# Altium schematic symbol library Personal_Schematic_Library_2022.SchLib: 863 symbols (part 2 of 8)
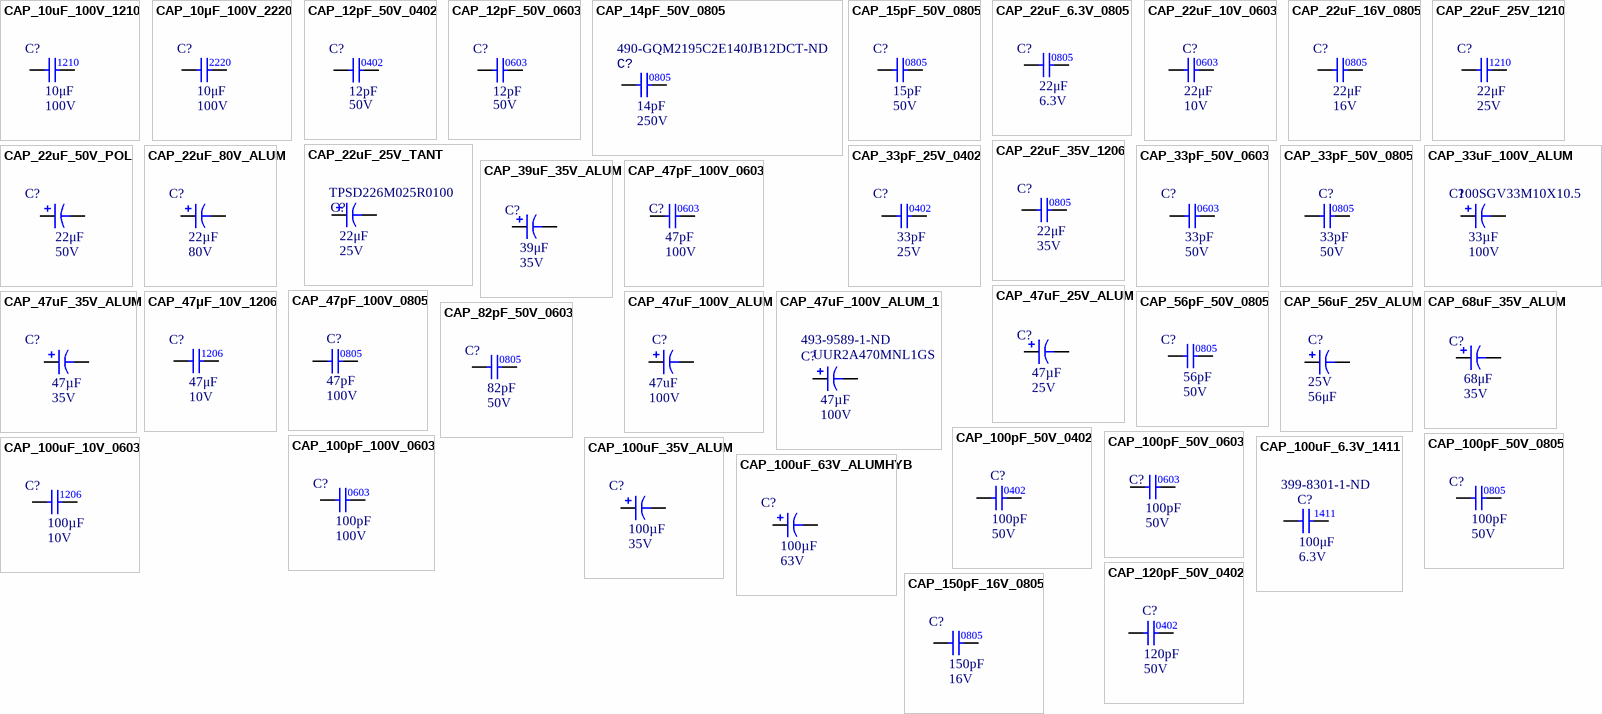
[diagram p30: symbols CAP_10uF_100V_1210 to CAP_150pF_16V_0805]

## CAP_22uF_25V_TANT
designator C?  value 22μF  Voltage Rating: 25V  Supplier Part Number 1: TPSD226M025R0100
CAP TANT 22UF 20% 25V 2917; Manufacturer Part Number 1: F971A106MBAHT3; Manufacturer 1: AVX Corporation; Supplier 1: Arrow Electronics
footprint CAP2917
pins: 1, 2

## CAP_22uF_35V_1206
designator C?  value 22μF  Voltage Rating: 35V
CAP CER 22UF 35V X5R 1206; Manufacturer 1: TDK Corporation; Manufacturer Part Number 1: C3216X5R1V226M160AC; Package/Footprint: 1205; Mounting Type: Surface Mount; Supplier 1: Digi-Key; Supplier Part Number 1: 445-8045-1-ND; Dielectric: X5R
footprint CAP1206 (Chip Capacitor, Body 3.2x1.6mm, Height 0.55mm, IPC Medium Density)
pins: 1, 2
text: 0805

## CAP_22uF_50V_POL
designator C?  value 22μF  Voltage Rating: 50V
CAP ALUM 22UF 20% 50V RADIAL; Manufacturer 1: Würth Elektronik; Manufacturer Part Number 1: 860020672011; Package/Footprint: TH; Supplier Part Number 1: 732-8857-1-ND; Supplier 1: Digi-Key; Mounting Type: TH; LCSC Part #: *
footprint CAPR-2/4h6.8
pins: 1, 2
1 alternate drawing of the same symbol

## CAP_22uF_80V_ALUM
designator C?  value 22µF  Voltage Rating: 80V
CAP ALUM POLY 22UF 20% 80V SMD; Manufacturer 1: KEMET; Manufacturer Part Number 1: A767KN226M1KLAE045; Mounting Type: SMD; Supplier 1: Digi-Key; Supplier Part Number 1: 399-15649-1-ND
footprint RADIAL_KEMET_KN
pins: 1, 2

## CAP_33pF_25V_0402
designator C?  value 33pF  Voltage Rating: 25V
CAP CER 33PF 25V C0G/NP0 0402; Manufacturer 1: AVX Corporation; Manufacturer Part Number 1: 04023A330JAT2A; Dielectric: C0G; Supplier 1: Digi-Key; Mounting Type: SMD; Supplier Part Number 1: 478-12613-1-ND; Package: 0402
footprint CAP0402 (Chip Capacitor, Body 1x0.5mm, Height 0.35mm, IPC Medium Density)
pins: 1, 2

## CAP_33pF_50V_0603
designator C?  value 33pF  Voltage Rating: 50V
CAP CER 33PF 50V C0G/NP0; Manufacturer 1: Yageo; Manufacturer Part Number 1: CC0603JRNPO9BN330; Package/Footprint: 0603; Dielectric: C0G; Supplier 1: Digi-Key; Mounting Type: SMD; Supplier Part Number 1: 311-1064-1-ND
footprint CAP0603
pins: 1, 2

## CAP_33pF_50V_0805
designator C?  value 33pF  Voltage Rating: 50V
CAP CER 33PF 50V C0G/NP0 0805; Manufacturer 1: Samsung Electro-Mechanics; Manufacturer Part Number 1: CL21C330JBANNNC; Dielectric: C0G/NP0; Mounting Type: SMD; Supplier 1: Digi-Key; Supplier Part Number 1: 1276-1105-1-ND; Package: 0805
footprint CAP0805 (Chip Capacitor, Body 2.0x1.2mm, Height 0.45mm, IPC Medium Density)
pins: 1, 2

## CAP_33uF_100V_ALUM
designator C?  value 33µF  Manufacturer Part Number 1: 100SGV33M10X10.5  Voltage Rating: 100V
CAP. ALUM 33UF 100V 20% SMD; Manufacturer 1: RubyCon; Mounting Type: SMD; Package/Footprint: SMD; Supplier 1: Digi-Key; Supplier Part Number 1: 1189-2387-1-ND
footprint CAP_J-V_8X10P5_RUB-M
pins: 1, 2

## CAP_39uF_35V_ALUM
designator C?  value 39μF  Voltage Rating: 35V
CAP ALUM POLY 39UF 20% 35V SMD; Manufacturer 1: Panasonic; Manufacturer Part Number 1: 35SVPF39M; Supplier 1: Digi-Key; Supplier Part Number 1: P16561CT-ND
footprint RADIAL_PANASONIC_E7 (Size E7 radial surface mount capacitor)
pins: 1, 2

## CAP_47pF_100V_0603
designator C?  value 47pF  Voltage Rating: 100V
CAP CER 47PF 100V C0G/NP0 0603; Manufacturer Part Number 1: C0603C470J1GACTU; Manufacturer 1: KEMET; Dielectric: C0G, NP0; Supplier Part Number 1: 399-7917-1-ND; Supplier 1: Digi-Key
footprint CAP0603
pins: 1, 2
text: 0603

## CAP_47pF_100V_0805
designator C?  value 47pF  Voltage Rating: 100V
CAP CER 47PF 100V NPO 0805; Manufacturer 1: Yageo; Manufacturer Part Number 1: AC0805JRNPO0BN470; Package/Footprint: 0805; Supplier 1: Digi-Key; Mounting Type: SMD; Supplier Part Number 1: 311-3131-1-ND
footprint CAP2012
pins: 1, 2

## CAP_47uF_25V_ALUM
designator C?  Voltage: 25V  Capacitance: 47µF
CAP ALUM POLY 47UF 20% 25V SMD; Manufacturer 1: Panasonic Electronic Components; Manufacturer Part Number 1: 25SVPF47M; Supplier 1: Digi-Key; Mounting Type: SMD; Package/Footprint: SMD; Supplier Part Number 1: P16513CT-ND; Verified: No; LCSC Part #: *
footprint 25SVPF47M (Aluminum Electrolytic Capacitor, Body 6.60x6.60x6.10mm, IPC Low Density)
pins: 1, 2

## CAP_47uF_35V_ALUM
designator C?  value 47µF  Voltage Rating: 35V
CAP ALUM POLY HYB 47UF 35V SMD; Manufacturer 1: Cornell Dubilier Electronics (CDE); Manufacturer Part Number 1: HZA476M035D16T-F; Supplier 1: Digi-Key; Supplier Part Number 1: HZA476M035D16T-FCT-ND; Mounting Type: SMD; Package/Footprint: SMD
footprint RADIAL_CORNELL_D
pins: 1, 2

## CAP_47uF_100V_ALUM
designator C?  Voltage Rating: 100V  Capacitance: 47uF
Aluminum Electrolytic Capacitor, Polarized, Aluminum (wet), 100V, 20% +Tol, 20% -Tol, 47uF, Surface Mount, 5454; Manufacturer: Nichicon; Manufacturer Part Number: UCD2A470MNQ1MS; Dielectric Material: Aluminium; Leakage Current: 47uA; Ripple Current: 250mA; Tan Delta: 0.07; ComponentLink1URL: https://datasheet.ciiva.com:443/pdfs/VipMasterIC/IC/NICH/NICH-S-A0003527725/NICH-S-A0003527725-1.pdf?src-supplier=IHS+Markit; ComponentLink1Description: https://datasheet.ciiva.com:443/pdfs/VipMasterIC/IC/NICH/NICH-S-A0003527725/NICH-S-A0003527725-1.pdf?src-supplier=IHS+Markit; ComponentLink2URL: https://datasheet.ciiva.com/11776/0900766b80ebdadd-11776792.pdf?src-supplier=RSComponents; ComponentLink2Description: https://datasheet.ciiva.com/11776/0900766b80ebdadd-11776792.pdf?src-supplier=RSComponents; ComponentLink3URL: https://datasheet.ciiva.com/30526/getdatasheetpartid-513218-30526979.pdf?src-supplier=Verical; ComponentLink3Description: https://datasheet.ciiva.com/30526/getdatasheetpartid-513218-30526979.pdf?src-supplier=Verical; ComponentLink4URL: https://datasheet.ciiva.com/16389/e-cd-16389182.pdf?src-supplier=Future+Electronics; ComponentLink4Description: https://datasheet.ciiva.com/16389/e-cd-16389182.pdf?src-supplier=Future+Electronics; ComponentLink5URL: https://datasheet.ciiva.com/17523/e-cd-17523974.pdf?src-supplier=Avnet+Europe; ComponentLink5Description: https://datasheet.ciiva.com/17523/e-cd-17523974.pdf?src-supplier=Avnet+Europe; ComponentLink6URL: https://datasheet.ciiva.com/6326/e-cd-6326630.pdf?src-supplier=Digi-Key; ComponentLink6Description: https://datasheet.ciiva.com/6326/e-cd-6326630.pdf?src-supplier=Digi-Key; ComponentLink7URL: https://datasheet.ciiva.com/6326/e-cd-6326632.pdf?src-supplier=Digi-Key; ComponentLink7Description: https://datasheet.ciiva.com/6326/e-cd-6326632.pdf?src-supplier=Digi-Key; ComponentLink8URL: https://datasheet.ciiva.com/6326/e-cd-6326634.pdf?src-supplier=Digi-Key; ComponentLink8Description: https://datasheet.ciiva.com/6326/e-cd-6326634.pdf?src-supplier=Digi-Key; Supplier 1: Digi-Key; RoHS: Yes; Category: Aluminum Electrolytic Capacitors; Stock 1: 515; Pricing 1: 1=2.15000, 10=1.69800, 50=1.47140, 100=1.27330 (USD); Mount: Surface Mount; Number of Pins: 2; Package Shape: Cylindrical; Size Code: 7575; Terminal Finish: Copper; Min Operating Temperature: -55°C; Max Operating Temperature: 105°C; JESD-609 Code: e3; Polarity: Polarized; Capacitor Type: Aluminium; Negative Tolerance: 20%; Package Style: SMTMeter; Packaging: Tape and Reel; Positive Tolerance: 20%; Rated DC Voltage (URdc): 100V; Termination: Flat; Length: 14.6mm; Width: 13.6mm; Height: 13.5mm; REACH SVHC: Yes; RoHS Compliant: Yes; Supplier Part Number 1: 493-6201-1-ND
footprint RADIAL_CORNELL_D (Size D radial surface mount capacitor)
pins: 1, 2

## CAP_47uF_100V_ALUM_1
designator C?  value 47µF  Manufacturer Part Number 1: UUR2A470MNL1GS  Voltage Rating: 100V  Supplier Part Number 1: 493-9589-1-ND
CAP ALUM 47UF 20% 100V SMD; Manufacturer 1: Nichicon; Mounting Type: SMD; Package/Footprint: SMD; Supplier 1: Digi-Key
footprint CAP_UCD_10X10_NCH-M
pins: 1, 2

## CAP_47μF_10V_1206
designator C?  value 47μF  Voltage Rating: 10V
CAP CER 47UF 10V X5R 1206; Manufacturer 1: Murata Electronics; Manufacturer Part Number 1: GRM31CR61A476ME15L; Mounting Type: SMD; Package: 1206; Supplier 1: Digi-Key; Supplier Part Number 1: 490-5528-1-ND
footprint CAP1206 (Chip Capacitor, Body 3.2x1.6mm, Height 0.55mm, IPC Medium Density)
pins: 1, 2

## CAP_56pF_50V_0805
designator C?  value 56pF  Voltage Rating: 50V
CAP CER 56PF 50V C0G/NP0; Manufacturer 1: Yageo; Manufacturer Part Number 1: CC0805FRNPO9BN560; Dielectric: C0G, NP0; Supplier 1: Digi-Key; Supplier Part Number 1: 311-4179-1-ND
footprint CAP2012
pins: 1, 2
text: 0805

## CAP_56uF_25V_ALUM
designator C?  value 56μF  Voltage Rating: 25V
CAP ALUM POLY HYB 56UF 25V SMD; Manufacturer Part Number 1: EEH-ZC1E560P; Manufacturer 1: Panasonic Electronic Components; Supplier 1: Digi-Key; Supplier Part Number 1: P15460CT-ND
footprint RADIAL_PANASONIC_D (Size D radial surface mount capacitor)
pins: 1, 2

## CAP_68uF_35V_ALUM
designator C?  value 68μF  Voltage Rating: 35V
CAP ALUM 68UF 20% 35V SMD; Manufacturer 1: Nichicon; Manufacturer Part Number 1: UUD1V680MCL1GS; Supplier 1: Digi-Key; Mounting Type: SMD; Supplier Part Number 1: 493-2289-1-ND; Package/Footprint: SMD
footprint RADIAL_NICHION_1V (Size G radial surface mount capacitor)
pins: 1, 2

## CAP_82pF_50V_0603
designator C?  value 82pF  Voltage Rating: 50V
CAP CER 82PF 50V C0G/NPO 0603; Manufacturer 1: Yageo; Manufacturer Part Number 1: CC0603JRNPO9BN820; Dielectric: C0G, NP0; Supplier 1: Digi-Key; Supplier Part Number 1: 311-1068-1-ND
footprint CAP0603
pins: 1, 2
text: 0805

## CAP_100pF_50V_0402
designator C?  Capacitance: 100pF  Voltage: 50V
CAP CER 100PF 50V X7R 0402; Manufacturer 1: AVX Corporation; Manufacturer Part Number 1: 04025C101KAT2A; Supplier 1: Digi-Key; Supplier Part Number 1: 478-1089-1-ND; Package: 0402
footprint CAP0402 (Chip Capacitor, Body 1x0.5mm, Height 0.35mm, IPC Medium Density)
pins: 1, 2

## CAP_100pF_50V_0603
designator C?  value 100pF  Voltage Rating: 50V
CAP CER 100PF 50V C0G/NP0 0603; Manufacturer Part Number 1: VJ0603A101JXAAC; Manufacturer 1: Vishay Vitramon; Dielectric: C0G, NP0; Supplier Part Number 1: 720-1370-1-ND; Supplier 1: Digi-Key
footprint CAP0603
pins: 1, 2
text: 0603

## CAP_100pF_50V_0805
designator C?  value 100pF  Voltage Rating: 50V
CAP CER 100PF 50V C0G/NP0 0805; Manufacturer 1: KEMET; Manufacturer Part Number 1: C0805C101J5GACTU; Package/Footprint: 0805; Dielectric: C0G, NP0; Mounting Type: SMD; Supplier 1: Digi-Key; Supplier Part Number 1: 399-1122-1-ND
footprint CAP2012
pins: 1, 2

## CAP_100pF_100V_0603
designator C?  value 100pF  Voltage Rating: 100V
CAP CER 100PF 100V X7R 0603; Manufacturer 1: YAGEO; Manufacturer Part Number 1: CC0603KRX7R0BB101; Package/Footprint: 0603; Mounting Type: SMD; Dielectric: X7R; Supplier 1: Digi-Key; Supplier Part Number 1: 311-4048-1-ND
footprint CAP2012
pins: 1, 2

## CAP_100uF_6.3V_1411
designator C?  Capacitance: 100μF  Voltage Rating: 6.3V  Supplier Part Number 1: 399-8301-1-ND
CAP TANT 100UF 6.3V 1411; Manufacturer: KEMET; Manufacturer Part Number: T495B107K006ATE400; Package/Footprint: 1411; Mounting Type: Surface Mount; Supplier 1: Digi-Key
pins: 1, 2

## CAP_100uF_10V_0603
designator C?  value 100µF  Voltage Rating: 10V
CAP CER 100UF 10V X5R 1206; Manufacturer 1: Murata Electronics; Manufacturer Part Number 1: GRM31CR61A107MEA8L; Package/Footprint: 1206; Mounting Type: SMD; Dielectric: X5R; Supplier 1: Digi-Key; Supplier Part Number 1: 490-GRM31CR61A107MEA8LCT-ND
footprint CAP1206 (Chip Capacitor, Body 3.2x1.6mm, Height 0.55mm, IPC Medium Density)
pins: 1, 2

## CAP_100uF_35V_ALUM
designator C?  value 100µF  Voltage Rating: 35V
CAP ALUM 100UF 20% 35V SMD; Manufacturer 1: Rubycon; Manufacturer Part Number 1: 35TKV100M8X10.5; Mounting Type: SMD; Package/Footprint: SMD; Supplier 1: Digi-Key; Supplier Part Number 1: 1189-2074-1-ND
footprint RADIAL_CORNELL_D (Size D radial surface mount capacitor)
pins: 1, 2

## CAP_100uF_63V_ALUMHYB
designator C?  value 100µF  Voltage Rating: 63V
CAP ALUMHYB 100UF 20% 63V SMD; Manufacturer 1: KEMET; Manufacturer Part Number 1: A781MS107M1JLAS030; Package/Footprint: Radial; Mounting Type: SMD; Supplier 1: Digikey; Supplier Part Number 1: 399-A781MS107M1JLAS030CT-ND
footprint RADIAL_KEMET_A781
pins: 1, 2

## CAP_120pF_50V_0402
designator C?  Capacitance: 120pF  Voltage: 50V
CAP CER 120PF 50V X7R 0402; Manufacturer 1: AVX Corporation; Manufacturer Part Number 1: 04025C121KAT2A; Supplier 1: Digi-Key; Supplier Part Number 1: 478-1090-1-ND; Package: 0402
footprint CAP0402 (Chip Capacitor, Body 1x0.5mm, Height 0.35mm, IPC Medium Density)
pins: 1, 2

## CAP_150pF_16V_0805
designator C?  value 150pF  Voltage Rating: 16V
CAP CER 150PF 16V X7R 0805; Manufacturer 1: Würth Elektronik; Manufacturer Part Number 1: 885012207028; Package/Footprint: 0805; Supplier 1: Digi-Key; Supplier Part Number 1: 732-8028-1-ND
footprint CAP0805 (Chip Capacitor, Body 2.0x1.2mm, Height 0.45mm, IPC Medium Density)
pins: 1, 2

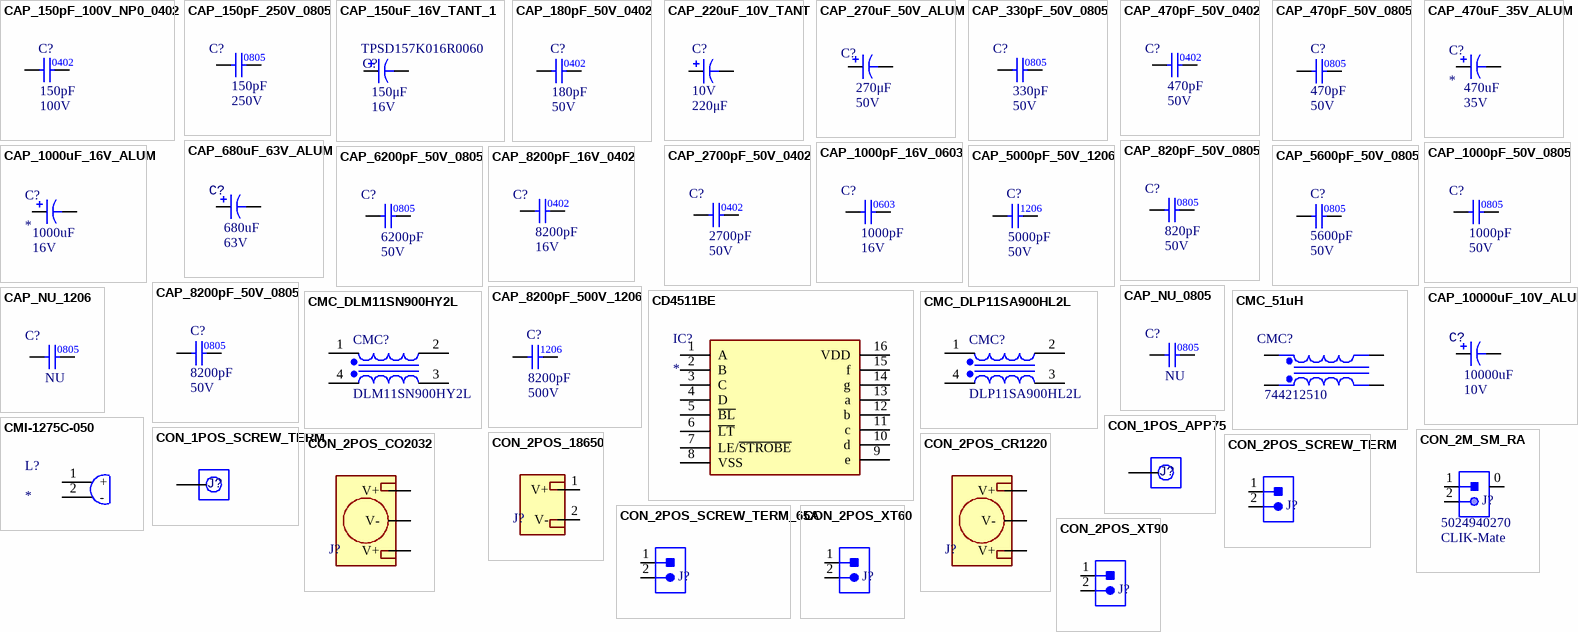
[diagram p5: symbols CAP_150pF_100V_NP0_0402 to CON_2POS_XT90]

## CAP_150pF_100V_NP0_0402
designator C?  Capacitance: 150pF  Rated DC Voltage (URdc): 100V
CAP CER 150PF 100V C0G/NP0 0402; Manufacturer: Yageo; Manufacturer Part Number: CGA2B2C0G2A151J050BE; Dielectric: X7R; Supplier 1: Digi-Key; Supplier Part Number 1: 445-175654-1-ND; RoHS: Yes; Category: Ceramic Capacitors; Mount: Surface Mount; Package: 0402
footprint CAP0402 (Chip Capacitor, Body 1x0.5mm, Height 0.35mm, IPC Medium Density)
pins: 1, 2

## CAP_150pF_250V_0805
designator C?  value 150pF  Voltage Rating: 250V
CAP CER 150PF 250V C0G/NP0 0805; Manufacturer 1: Murata Electronics; Manufacturer Part Number 1: GRM21A5C2E151JW01D; Dielectric: C0G, NP0; Supplier 1: Digi-Key; Supplier Part Number 1: 490-12755-1-ND
footprint CAP2012
pins: 1, 2
text: 0805

## CAP_150uF_16V_TANT_1
designator C?  value 150μF  Voltage Rating: 16V  Supplier Part Number 1: TPSD157K016R0060
CAP TANT 150UF 10% 16V 2917; Manufacturer 1: Kyocera AVX; Manufacturer Part Number 1: TPSD157K016R0060; Supplier 1: Arrow Electronics
footprint CAP2917
pins: 1, 2

## CAP_180pF_50V_0402
designator C?  Capacitance: 180pF  Voltage: 50V
CAP CER 180PF 50V X7R 0402; Manufacturer 1: AVX Corporation; Manufacturer Part Number 1: 04025C181KAT2A; Supplier 1: Digi-Key; Supplier Part Number 1: 478-1092-1-ND; Package: 0402
footprint CAP0402 (Chip Capacitor, Body 1x0.5mm, Height 0.35mm, IPC Medium Density)
pins: 1, 2

## CAP_220uF_10V_TANT
designator C?  value 220μF  Voltage Rating: 10V
CAP TANT POLY 220UF 10V 2917; Manufacturer Part Number 1: T55D227M010C0008; Manufacturer 1: Vishay Sprague; Supplier 1: Digi-Key; Supplier Part Number 1: 718-2303-1-ND
footprint CAP2917
pins: 1, 2

## CAP_270uF_50V_ALUM
designator C?  value 270μF  Voltage Rating: 50V
CAP ALUM 270uF 50VDC 20% SMD; Manufacturer 1: Panasonic Electronic Components; Manufacturer Part Number 1: EEE-FN1H271UP; Supplier 1: Digi-Key; Mounting Type: SMD; Supplier Part Number 1: 10-EEE-FN1H271UPCT-ND
footprint RADIAL_PANASONIC_G (Size G radial surface mount capacitor)
pins: 1, 2

## CAP_330pF_50V_0805
designator C?  value 330pF  Voltage Rating: 50V
CAP CER 330PF 50V C0G/NPO 0805; Manufacturer 1: Yageo; Manufacturer Part Number 1: CC0805JRNPO9BN331; Package/Footprint: 0805; Supplier 1: Digi-Key; Supplier Part Number 1: 311-1117-1-ND
footprint CAP0805 (Chip Capacitor, Body 2.0x1.2mm, Height 0.45mm, IPC Medium Density)
pins: 1, 2

## CAP_470pF_50V_0402
designator C?  Voltage Rating: 50V  Capacitance: 470pF
CAP CER 470PF 50V X7R 0402; Manufacturer 1: Murata; Manufacturer Part Number 1: GRM155R71H471KA01D; Package/Footprint: 0402; Supplier 1: Digi-Key; Dielectric: X7R; Supplier Part Number 1: 490-1300-1-ND
footprint CAP 0402_1005 (Chip Capacitor, 2-Leads, Body 1.02x0.51mm, IPC Medium Density)
pins: 1, 2

## CAP_470pF_50V_0805
designator C?  value 470pF  Voltage Rating: 50V
CAP CER 470PF 50V X7R 0805; Manufacturer 1: Kyocera AVX; Manufacturer Part Number 1: 08055C471JAT2A; Package/Footprint: 0805; Supplier 1: Digi-Key; Mounting Type: SMD; Supplier Part Number 1: 478-7958-1-ND; Dielectric: X7R
footprint CAP2012
pins: 1, 2

## CAP_470uF_35V_ALUM
designator C?  Voltage: 35V  Capacitance: 470uF
CAP ALUM 470uF 20% 35V SMD; Manufacturer 1: ROQANG; Manufacturer Part Number 1: RVT1V471M1010; Datasheet Link: https://datasheet.lcsc.com/szlcsc/2004031004_ROQANG-RVT1V471M1010_C72519.pdf; Height: 11mm; LCSC Number: C72519
footprint CAPAE1030X1100N
pins: 1, 2

## CAP_680uF_63V_ALUM
designator C?  value 680uF  Voltage Rating: 63V
CAP ALUM 680UF 20% 63V RADIAL; Manufacturer 1: United Chemi-Con; Manufacturer Part Number 1: ELXZ630ELL681MM20S; Supplier 1: Digi-Key; Voltage: 63V; Supplier Part Number 1: 565-2050-ND; Mounting Type: SMD
footprint ELXZ630ELL681MM20S (CAP ALUM 680UF 20% 63V RADIAL)
pins: 1, 2

## CAP_820pF_50V_0805
designator C?  Capacitance: 820pF  Voltage Rating: 50V
CAP CER 820PF 50V C0G/NP0 0805; Manufacturer 1: KEMET; Manufacturer Part Number 1: C0805X821J5GAC7800; Package/Footprint: 0805; Supplier 1: Digi-Key; Supplier Part Number 1: 399-19481-1-ND
footprint CAP0805 (Chip Capacitor, Body 2.0x1.2mm, Height 0.45mm, IPC Medium Density)
pins: 1, 2

## CAP_1000pF_16V_0603
designator C?  value 1000pF  Voltage Rating: 16V
CAP CER 1000PF 16V X7R 0603; Manufacturer 1: KEMET; Manufacturer Part Number 1: C0603C102K4RAC7867; Package/Footprint: 0603; Supplier 1: Digi-Key; Mounting Type: SMD; Supplier Part Number 1: 399-C0603C102K4RAC7867CT-ND; Dielectric: X7R
footprint CAP0603
pins: 1, 2

## CAP_1000pF_50V_0805
designator C?  value 1000pF  Voltage Rating: 50V
CAP CER 1000pF 50V X7R 0805; Manufacturer 1: Samsung; Manufacturer Part Number 1: CL21B102KBANNNC; Package/Footprint: 0805; Supplier 1: Digi-Key; Mounting Type: SMD; Supplier Part Number 1: 1276-1020-1-ND; Dielectric: X7R
footprint CAP2012
pins: 1, 2

## CAP_1000uF_16V_ALUM
designator C?  Voltage: 16V  Capacitance: 1000uF
CAP ALUM 1000uF 20% 16V SMD; Manufacturer: Lelon; Manufacturer Part Number 1: VE-102M1CTR-1010; Datasheet Link: https://datasheet.lcsc.com/szlcsc/1811051743_Lelon-VE-102M1CTR-1010_C249474.pdf; Height: 10.5mm; Tolerance: 20%; LCSC Number: C249474
footprint CAPAE1030X1050N
pins: 1, 2

## CAP_2700pF_50V_0402
designator C?  Capacitance: 2700pF  Voltage Rating: 50V
CAP CER 2700PF 50V C0G 0805; Manufacturer 1: TDK Corporation; Manufacturer Part Number 1: C2012C0G1H272J060AA; Package: 0805; Supplier 1: Digi-Key; Supplier Part Number 1: 445-7508-1-ND
footprint CAP0402 (Chip Capacitor, Body 1x0.5mm, Height 0.35mm, IPC Medium Density)
pins: 1, 2
text: 0402

## CAP_5000pF_50V_1206
designator C?  Voltage Rating: 50V  Capacitance: 5000pF
CAP CER 5000pF 50V X7R 1206; Manufacturer 1: Kyocera AVX; Manufacturer Part Number 1: 12065C502JAT2A; Supplier 1: Digi-Key; Supplier Part Number 1: 478-11953-1-ND; Dielectric: X7R
footprint CAP1206 (Chip Capacitor, Body 3.2x1.6mm, Height 0.55mm, IPC Medium Density)
pins: 1, 2
text: 1206

## CAP_5600pF_50V_0805
designator C?  Capacitance: 5600pF  Voltage Rating: 50V
CAP CER 5600PF 50V C0G 0805; Manufacturer 1: TDK Corporation; Manufacturer Part Number 1: CGA4C2C0G1H562J060AA; Package/Footprint: 0805; Mounting Type: SMD; Supplier 1: Digi-Key; Supplier Part Number 1: 445-6944-1-ND; Dielectric: C0G
pins: 1, 2

## CAP_6200pF_50V_0805
designator C?  Capacitance: 6200pF  Voltage Rating: 50V
CAP CER 6200PF 50V C0G/NP0 0805; Manufacturer 1: Murata Electronics; Manufacturer Part Number 1: GRM2195C1H622JA01D; Package/Footprint: 0805; Supplier 1: Digi-Key; Supplier Part Number 1: 490-1637-1-ND
footprint CAP0805 (Chip Capacitor, Body 2.0x1.2mm, Height 0.45mm, IPC Medium Density)
pins: 1, 2

## CAP_8200pF_16V_0402
designator C?  Voltage Rating: 16V  Capacitance: 8200pF
CAP CER 8200PF 16V X7R 0402; Manufacturer 1: Murata; Manufacturer Part Number 1: GRM155R71C822KA01D; Dielectric: X7R; Supplier 1: Digi-Key; Supplier Part Number 1: 490-6338-1-ND; Package: 0402
footprint CAP0402 (Chip Capacitor, Body 1x0.5mm, Height 0.35mm, IPC Medium Density)
pins: 1, 2

## CAP_8200pF_50V_0805
designator C?  Capacitance: 8200pF  Voltage Rating: 50V
CAP CER 8200PF 50V X7R 0805; Manufacturer: YAGEO; Manufacturer Part Number: CC0805KRX7R9BB822; Mounting Type: SMD; Package: 0805; Supplier 1: Digi-Key; Supplier Part Number 1: 311-4331-1-ND; Dielectric: X7R
footprint CAP0805 (Chip Capacitor, Body 2.0x1.2mm, Height 0.45mm, IPC Medium Density)
pins: 1, 2

## CAP_8200pF_500V_1206
designator C?  value 8200pF  Voltage Rating: 500V
CAP CER 8200PF 500V C0G 1206; Manufacturer 1: KEMET; Manufacturer Part Number 1: C1206C822JCGACAUTO; Dielectric: C0G, NP0; Supplier 1: Digi-Key; Supplier Part Number 1: 399-14847-1-ND
footprint CAP1206 (Chip Capacitor, Body 3.2x1.6mm, Height 0.55mm, IPC Medium Density)
pins: 1, 2
text: 1206

## CAP_10000uF_10V_ALUM
designator C?  value 10000uF  Voltage Rating: 10V
CAP ALUM 10000UF 20% 10V RADIAL; Manufacturer 1: Nichicon; Manufacturer Part Number 1: URS1A103MHD1TN; Supplier 1: Digi-Key; Mounting Type: TH; Package: TH; Supplier Part Number 1: 493-12364-1-ND; Verified: No
footprint CAP_UBY_18X25_NC
pins: 1, 2

## CAP_NU_0805
designator C?  value NU
PLACEHOLDER CAPACITOR; Mounting Type: SMD; Package: 0805
footprint CAP0805 (Chip Capacitor, Body 2.0x1.2mm, Height 0.45mm, IPC Medium Density)
pins: 1, 2

## CAP_NU_1206
designator C?  value NU
PLACEHOLDER CAPACITOR; Mounting Type: Surface Mount; Package: 1206
footprint CAP1206 (Chip Capacitor, Body 3.2x1.6mm, Height 0.55mm, IPC Medium Density)
pins: 1, 2
text: 0805

## CD4511BE
designator IC?
Integrated Circuit; Manufacturer_Name: Texas Instruments; Manufacturer Part Number 1: CD4511BE; Datasheet Link: http://www.ti.com/lit/gpn/cd4511b; Height: 5.08mm; Mouser Part Number: 595-CD4511BE; Mouser Price/Stock: https://www.mouser.co.uk/ProductDetail/Texas-Instruments/CD4511BE?qs=pt%2FIv5r0EPdhGGYgwfpYEw%3D%3D; Arrow Part Number: CD4511BE; Arrow Price/Stock: https://www.arrow.com/en/products/cd4511be/texas-instruments?region=nac
footprint DIP794W53P254L1930H508Q16N
pins: 1 A, 2 B, 3 C, 4 D, 5 ~{BL}, 6 ~{LT}, 7 LE/~{STROBE}, 8 VSS, 9 e, 10 d, 11 c, 12 b, 13 a, 14 g, 15 f, 16 VDD

## CMC_51uH
designator CMC?  Manufacturer Part Number 1: 744212510  (hidden comment: CMC_51uH)
CMC 51uH 300MA 2LN SMD; Manufacturer 1: Wurth Electronics; DC Resistance (DCR): 160mR; Test Frequency: 100kHz; Inductance Tolerance: 50%; Voltage Rating (DC): 80V; Number of Lines: 2; Impedance: 300R; Supplier 1: Digi-Key; Package/Footprint: SMD; Number of Pins: 4; Current: 300mA; Max DC Current: 300mA; Mounting Type: SMD; Current Rating: 300mA; Inductance: 51uH; ComponentLink7URL: https://datasheet.ciiva.com/6216/744212510-6216348.pdf?src-supplier=Digi-Key; ComponentLink7Description: https://datasheet.ciiva.com/6216/744212510-6216348.pdf?src-supplier=Digi-Key; ComponentLink8URL: https://datasheet.ciiva.com/7764/1735560-7764951.pdf?src-supplier=Element14; ComponentLink8Description: https://datasheet.ciiva.com/7764/1735560-7764951.pdf?src-supplier=Element14; Supplier Part Number 1: 732-3941-1-ND
footprint 744212510 (CMC HORIZONTAL 4 J-LEAD)
pins: 1 Pri+, 3 Sec+, 4 Sec-, 5 Pri-

## CMC_DLM11SN900HY2L
designator CMC?  Manfuacturer Part Number 1: DLM11SN900HY2L
CMC 100MA 2LN 90 OHM SMD; Manufacturer 1: Murata Electronics; DC Resistance (DCR) (Max): 1.38Ohm; Voltage Rating - DC: 5V; Supplier 1: Digi-Key; Supplier Part Number 1: 490-11941-1-ND; Current Rating (Max): 100mA; Package: 0504
footprint FIL_DLM11SN900HY2L
pins: 1, 2, 3, 4

## CMC_DLP11SA900HL2L
designator CMC?  Manfuacturer Part Number 1: DLP11SA900HL2L
CMC 150MA 2LN 90 OHM SMD; Manufacturer 1: Murata Electronics; DC Resistance (DCR) (Max): 1.75Ohm; Voltage Rating - DC: 5V; Supplier 1: Digi-Key; Supplier Part Number 1: 490-6035-1-ND; Current Rating (Max): 150mA; Package: 0504
footprint FIL_DLP11SA900HL2L
pins: 1, 2, 3, 4

## CMI-1275C-050
designator L?
Inductor; Manufacturer_Name: CUI Inc.; Manufacturer Part Number 1: CMI-1275C-050; Datasheet Link: https://componentsearchengine.com/Datasheets/1/CMI-1275C-050.pdf; Height: 8mm; Mouser Part Number: 490-CMI-1275C-050; Mouser Price/Stock: https://www.mouser.co.uk/ProductDetail/CUI-Devices/CMI-1275C-050?qs=qCxwlXJ4fnyWvfqXc%252BNqAA%3D%3D; Arrow Part Number: CMI-1275C-050; Arrow Price/Stock: https://www.arrow.com/en/products/cmi-1275c-050/cui-inc
footprint CMI1275C050
pins: 1 +, 2 -

## CON_1POS_APP75
designator J?  (value not drawn)
TERM BLADE NON-GEND SILVER; Manufacturer 1: Anderson Power Products, Inc.; Manufacturer Part Number 1: PC5934S; Voltage Rating: 600V; Current Rating: 55A; Supplier 1: Digi-Key; Supplier Part Number 1: 2243-PC5934S-ND
footprint APP_PC5934S
pins: 1

## CON_1POS_SCREW_TERM
designator J?  (value not drawn)
TERM SCREW 6-32 4 PIN PCB; Manufacturer 1: Keystone Electronics; Manufacturer Part Number 1: 7701; Package/Footprint: TH; Supplier 1: Digi-Key; Mounting Type: TH; Supplier Part Number 1: 36-7701-ND
footprint 7701_KEYSTONE (Through hole screw terminal footprint)
pins: 1

## CON_2M_SM_RA
designator J?  Family: CLIK-Mate  Manufacturer Part Number 1: 5024940270  (hidden comment: CON_2M_SM_RA)
CONN HEADER SMD RIGHT ANGLE 2MM PITCH; Manufacturer 1: Molex; Supplier 1: Digi-Key; Supplier Part Number 1: WM15810CT-ND
footprint MOLEX-5024940270 (Molex 5024940670 2 pin SMD RA connector)
pins: 0, 1, 2

## CON_2POS_18650
designator J?
BATTERY HOLDER 18650 PC PIN; Manufacturer 1: MPD (Memory Protection Devices); Manufacturer Part Number 1: BK-18650-PC2; Mounting Type: TH; Supplier 1: Digi-Key; Supplier Part Number 1: BK-18650-PC2-ND
footprint MPD_18650-PC2
pins: 1 V+ (power), 2 V- (power)

## CON_2POS_CO2032
designator J?
BATTERY RETAINER COIN 20MM SMD; Manufacturer 1: TE Connectivity Linx; Manufacturer Part Number 1: BAT-HLD-001; Mounting Type: SMD; Supplier 1: Digi-Key; Supplier Part Number 1: BAT-HLD-001-ND
footprint TE_COIN_20MM
pins: 1 V+ (power), 1 V+ (power), 2 V- (power)

## CON_2POS_CR1220
designator J?
BATTERY RETAINER COIN 12MM SMD; Manufacturer 1: Adam Tech; Manufacturer Part Number 1: BH-122A-5; Mounting Type: SMD; Supplier 1: Digi-Key; Supplier Part Number 1: 2057-BH-122A-5-ND
footprint ATECH_COIN_12MM
pins: 1 V+ (power), 1 V+ (power), 2 V- (power)

## CON_2POS_SCREW_TERM
designator J?  (value not drawn)
TERM BLK 2POS SIDE ENTRY 5MM; Manufacturer 1: Phoenix Contact; Manufacturer Part Number 1: 1935161; Package/Footprint: SMD; Supplier 1: Digi-Key; Mounting Type: TH; Supplier Part Number 1: 277-1667-ND
footprint 1935161
pins: 1, 2

## CON_2POS_SCREW_TERM_65A
designator J?, comment CON_2POS_SCREW_TERM  (value not drawn)
PCB TERMINAL BLOCKS RISING CLAMP; Manufacturer 1: Amphenol Anytek; Manufacturer Part Number 1: VP0265840000G; Supplier 1: Digi-Key; Mounting Type: TH; Package/Footprint: TERMINAL; Supplier Part Number 1: 1818-VP0265840000G-ND
footprint CON_2POS_SCREW_TERM_65A
pins: 1, 2

## CON_2POS_XT60
designator J?  (value not drawn)
XT60 CONNECTORS MALE/FEMALE PAIR; Manufacturer 1: SparkFun Electronics; Manufacturer Part Number 1: PRT-10474; Mounting Type: TH; Package/Footprint: XT60; Supplier 1: Digi-Key; Supplier Part Number 1: 1568-1816-ND
footprint XT60
pins: 1, 2

## CON_2POS_XT90
designator J?  (value not drawn)
HIGH QUALITY GOLD PLATED XT90 MA; Manufacturer 1: DFRobot; Manufacturer Part Number 1: FIT0588; Mounting Type: TH; Package/Footprint: XT90; Supplier 1: Digi-Key; Supplier Part Number 1: 1738-1438-ND
footprint XT90
pins: 1, 2

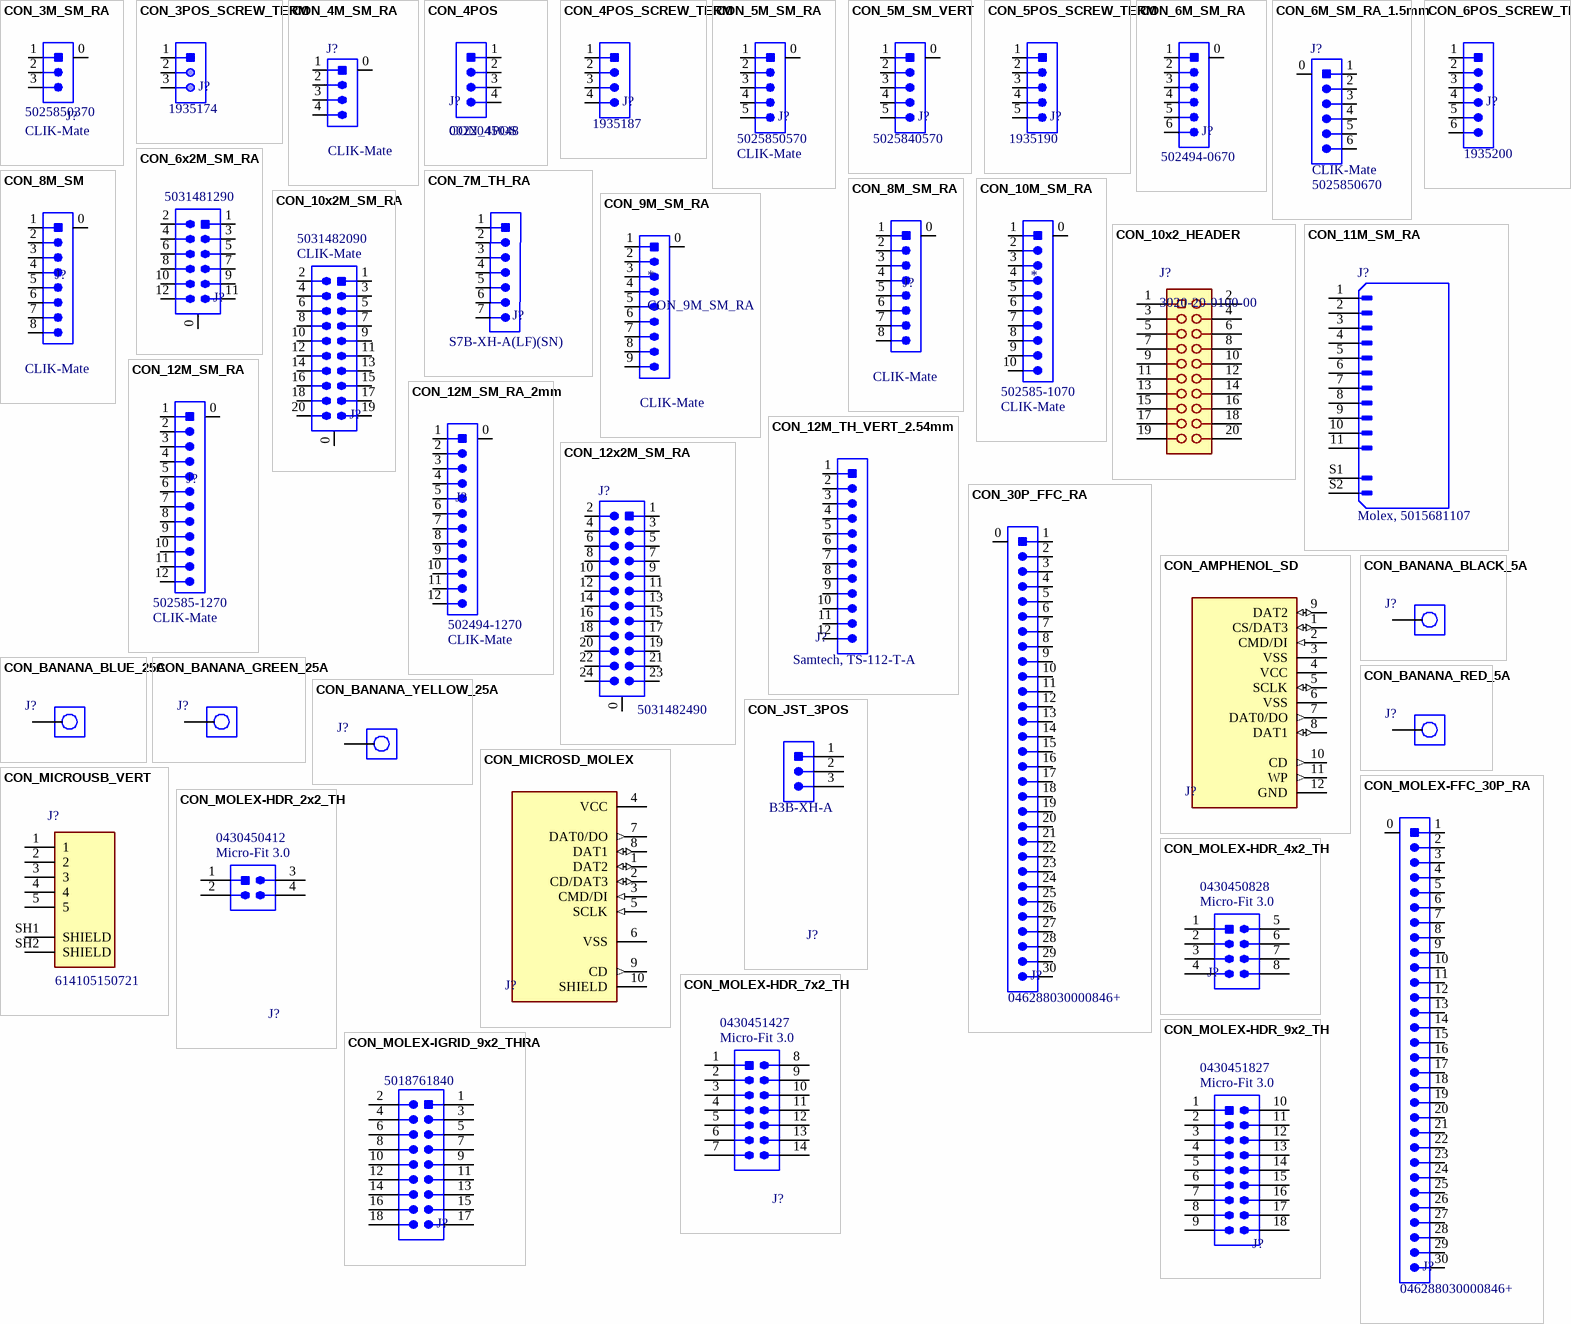
[diagram p6: symbols CON_3M_SM_RA to CON_MOLEX-IGRID_9x2_THRA]

## CON_3M_SM_RA
designator J?  Family: CLIK-Mate  Manufacturer Part Number 1: 5025850370  (hidden comment: CON_3M_SM_RA)
CONN RCPT 3POS 0.059 TIN SMD R/A; Manufacturer 1: Molex; Current Rating: 2A; Voltage Rating: 100V; Pitch: 1.5mm; Supplier 1: Digi-Key; Mounting Type: SMD; Package/Footprint: SMD; Orientation: Right Angle; Supplier Part Number 1: WM12831CT-ND
footprint MOLEX-5025850370
pins: 0, 1, 2, 3

## CON_3POS_SCREW_TERM
designator J?  Manufacturer Part Number 1: 1935174  (hidden comment: CON_3POS_SCREW_TERM)
TERM BLK 3POS SIDE ENTRY 5MM; Manufacturer 1: Phoenix Contact; Package/Footprint: TH; Voltage Rating: 250V; Current Rating: 17.5A; Supplier 1: Digi-Key; Mounting Type: TH; Orientation: Straight; Pitch: 5mm; Supplier Part Number 1: 277-1578-ND
footprint 1935174 (5 MM PITCH)
pins: 1, 2, 3

## CON_4M_SM_RA
designator J?  Family: CLIK-Mate  (hidden comment: CON_4M_SM_RA)
CONN HEADER SMD RIGHT ANGLE 1.5 MM PITCH; Manufacturer 1: Molex; Manufacturer Part Number 1: 5025850470; Supplier 1: Digi-Key; Supplier Part Number 1: WM9449CT-ND; Package/Footprint: SMD; Mounting Type: SMD
footprint MOLEX-5025850470
pins: 0, 1, 2, 3, 4

## CON_4POS
designator J?  Manufacturer Part Number: 0022045048
CONN HEADER VERT 4POS 2.54MM; Manufacturer: Molex; Supplier 1: Digi-Key; Supplier Part Number 1: 0022045048-ND; RoHS: Yes; Category: Headers and Wire Housings; Pricing 1: 16000=0.12858 (USD); ComponentLink1URL: https://datasheet.ciiva.com/6839/022045032-sd-6839882.pdf?src-supplier=Digi-Key; ComponentLink1Description: https://datasheet.ciiva.com/6839/022045032-sd-6839882.pdf?src-supplier=Digi-Key
pins: 1   , 2, 3, 4

## CON_4POS_SCREW_TERM
designator J?  Manufacturer Part Number 1: 1935187  (hidden comment: CON_4POS_SCREW_TERM)
TERM BLK 4POS SIDE ENTRY 5MM; Manufacturer 1: Phoenix Contact; Wire Gauge: 12-26AWG; Package/Footprint: TH; Screw Thread: M2.6; Supplier Part Number 1: 277-1579-ND; Supplier 1: Digi-Key; Pitch: 5mm; Mounting Type: TH
footprint 1935187
pins: 1, 2, 3, 4

## CON_5M_SM_RA
designator J?  Family: CLIK-Mate  Manufacturer Part Number 1: 5025850570  (hidden comment: CON_5M_SM_RA)
CONN HEADER SMD RIGHT ANGLE 1.5MM PITCH; Manufacturer 1: Molex; Current Rating: 2A; Supplier 1: Digi-Key; Mounting Type: SMD; Orientation: Right Angle; Supplier Part Number 1: WM14469CT-ND; Package/Footprint: SMD
footprint MOLEX-5025850570
pins: 0, 1, 2, 3, 4, 5

## CON_5M_SM_VERT
designator J?  Manufacturer Part Number 1: 5025840570  (hidden comment: CON_5M_SM_VERT)
CONN HEADER SMD VERTICAL 1.5MM PITCH; Manufacturer 1: Molex; Current Rating: 2A; Voltage Rating: 100V; Supplier 1: Digi-Key; Orientation: Vertical; Pitch: 1.5mm; Supplier Part Number 1: WM14463CT-ND
footprint MOLEX-5025840570 (Molex 5024940670 12 pin 1.5 mm pitch SMD vertical connector)
pins: 0, 1, 2, 3, 4, 5

## CON_5POS_SCREW_TERM
designator J?  Manufacturer Part Number 1: 1935190  (hidden comment: CON_5POS_SCREW_TERM)
TERM BLK 5POS SIDE ENTRY 5MM; Manufacturer 1: Phoenix Contact; Package/Footprint: TH; Supplier 1: Digi-Key; Mounting Type: TH; Supplier Part Number 1: 277-1580-ND
footprint 1935190
pins: 1, 2, 3, 4, 5

## CON_6M_SM_RA
designator J?  Manufacturer Part Number 1: 502494-0670  (hidden comment: CON_6M_SM_RA)
CONN HEADER SMD RIGHT ANGLE 2MM PITCH; Manufacturer 1: Molex; Current Rating: 3A; Voltage Rating: 250V; Supplier 1: Digi-Key; Orientation: Right Angle; Pitch: 2mm; Supplier Part Number 1: WM2283CT-ND
footprint MOLEX-5024940670 (Molex 5024940670 6 pin 2mm pitch SMD RA connector)
pins: 0, 1, 2, 3, 4, 5, 6

## CON_6M_SM_RA_1.5mm
designator J?  Manufacturer Part Number 1: 5025850670  Family: CLIK-Mate
CONN HEADER SMD RIGHT ANGLE 1.5 MM PITCH; Manufacturer 1: Molex; Supplier 1: Digi-Key; Supplier Part Number 1: WM12832CT-ND; Package/Footprint: SMD; Mounting Type: SMD
footprint MOLEX-5025850670
pins: 0, 1, 2, 3, 4, 5, 6

## CON_6POS_SCREW_TERM
designator J?  Manufacturer Part Number 1: 1935200  (hidden comment: CON_6POS_SCREW_TERM)
TERM BLK 6POS SIDE ENTRY 5MM; Manufacturer 1: Phoenix Contact; Wire Gauge: 12-26AWG; Package/Footprint: TH; Screw Thread: M2.6; Supplier Part Number 1: 277-1581-ND; Supplier 1: Digi-Key; Pitch: 5mm; Mounting Type: TH
footprint 1935200
pins: 1, 2, 3, 4, 5, 6

## CON_6x2M_SM_RA
designator J?  Manufacturer Part Number 1: 5031481290  (hidden comment: CON_6x2M_SM_RA)
CONN HEADER SMD RIGHT ANGLE 1.5MM PITCH; Manufacturer 1: Molex; Voltage Rating: 100V; Current Rating: 1A; Supplier 1: Digi-Key; Mounting Type: SMD; Package/Footprint: SMD; Orientation: Right Angle; Pitch: 1.5mm; Supplier Part Number 1: WM14476CT-ND
footprint MOLEX-5031481290 (Molex 5024940670 12 pin 1.5 mm pitch SMD RA connector)
pins: 0, 1, 2, 3, 4, 5, 6, 7, 8, 9, 10, 11, 12

## CON_7M_TH_RA
designator J?  Manufacturer Part Number 1: S7B-XH-A(LF)(SN)  (hidden comment: CON_7M_TH_RA)
CONN HEADER XH SIDE 7POS 2.5MM; Manufacturer 1: JST Sales America Inc.; Current Rating: 3A; Voltage Rating: 250V; Supplier 1: Digi-Key; Orientation: Right Angle; Pitch: 2.5mm; Supplier Part Number 1: 455-2240-ND
footprint JST_S7B-XH-A(LF)(SN)
pins: 1, 2, 3, 4, 5, 6, 7 6

## CON_8M_SM
designator J?, comment Family: CLIK-Mate  (hidden comment: CON_8M_SM_RA)
CONN HEADER SMD VERTICAL 2 MM PITCH; Current Rating: 3A; Voltage Rating: 250V; Pitch: 1.5mm; Supplier 1: Digi-Key; Mounting Type: SMD; Package/Footprint: SMD; Orientation: Right Angle; Supplier Part Number 1: WM14471CT-ND
footprint MOLEX-5024430870
pins: 0, 1, 2, 3, 4, 5, 6, 7 6, 8 6

## CON_8M_SM_RA
designator J?  Family: CLIK-Mate  (hidden comment: CON_8M_SM_RA)
CONN HEADER SMD RIGHT ANGLE 1.5 MM PITCH; Current Rating: 2A; Voltage Rating: 100V; Pitch: 1.5mm; Supplier 1: Digi-Key; Mounting Type: SMD; Package/Footprint: SMD; Orientation: Right Angle; Supplier Part Number 1: WM14471CT-ND
footprint MOLEX-5025850870
pins: 0, 1, 2, 3, 4, 5, 6, 7 6, 8 6

## CON_9M_SM_RA
designator *  Family: CLIK-Mate
CONN RCPT 9POS CLIK-MATE 0.059 TIN SMD R/A; Current Rating: 2A; Pitch: 1.5mm; Supplier 1: Digi-Key; Orientation: Right Angle; Supplier Part Number 1: WM20816CT-ND
footprint Molex-5025850970
pins: 0, 1, 2, 3, 4, 5, 6, 7 6, 8 6, 9

## CON_10M_SM_RA
designator *  Family: CLIK-Mate  Manufacturer Part Number 1: 502585-1070  (hidden comment: CON_10M_SM_RA)
CONN HEADER SMD RIGHT ANGLE 1.5 MM PITCH; Manufacturer 1: Molex; Current Rating: 2A; Voltage Rating: 100V; Pitch: 1.5mm; Supplier 1: Digi-Key; Supplier Part Number 1: WM14472CT-ND; Orientation: Right Angle
footprint MOLEX-5025851070
pins: 0, 1, 2, 3, 4, 5, 6, 7 6, 8 6, 9, 10

## CON_10x2_HEADER
designator J?, comment 3020-20-0100-00
CONN HEADER VERT 20POS 2.54MM; Manufacturer 1: CNC Tech; Manufacturer Part Number 1: 3020-20-0100-00; Supplier 1: Digi-Key; Supplier Part Number 1: 1175-1612-ND
footprint CNC_3020-20-0100-00
pins: 1, 2, 3, 4, 5, 6, 7, 8, 9, 10, 11, 12, 13, 14, 15, 16, 17, 18, 19, 20

## CON_10x2M_SM_RA
designator J?  Family: CLIK-Mate  Manufacturer Part Number 1: 5031482090  (hidden comment: CON_10x2M_SM_RA)
CONN HEADER SMD RIGHT ANGLE 1.5MM PITCH; Manufacturer 1: Molex; Voltage Rating: 100V; Current Rating: 1A; Supplier 1: Digi-Key; Orientation: Right Angle; Pitch: 1.5mm; Supplier Part Number 1: WM9451CT-ND
footprint MOLEX-5031482090 (Molex 5024940670 20 pin 1.5 mm pitch SMD RA connector)
pins: 0, 1, 2, 3, 4, 5, 6, 7, 8, 9, 10, 11, 12, 13, 14, 15, 16, 17, 18, 19, 20

## CON_11M_SM_RA
designator J?, comment MP: Molex, 5015681107  (hidden comment: CON_12M_SM_RA)
CONN HEADER SMD RIGHT ANGLE 1MM PITCH; Availability: Unavailable; Value: *; Package: None; Price: None; Supplier 1: Digi-Key; Supplier Part Number 1: WM7902CT-ND
footprint MOLEX-5015681107
pins: 1, 2, 3, 4, 5, 6, 7, 8, 9, 10, 11, S1 SHIELD1, S2 SHIELD2

## CON_12M_SM_RA
designator J?  Family: CLIK-Mate  Manufacturer Part Number 1: 502585-1270  (hidden comment: CON_12M_SM_RA)
CONN HEADER SMD RIGHT ANGLE 1.5MM PITCH; Manufacturer 1: Molex; Current Rating: 2A; Voltage Rating: 100V; Supplier 1: Digi-Key; Mounting Type: SMD; Package/Footprint: SMD; Orientation: Right Angle; Pitch: 1.5mm; Supplier Part Number 1: WM14473CT-ND
footprint MOLEX-5025851270
pins: 0, 1, 2, 3, 4, 5, 6, 7 6, 8 6, 9, 10, 11, 12

## CON_12M_SM_RA_2mm
designator J?  Family: CLIK-Mate  Supplier Part Number 1: 502494-1270  (hidden comment: CON_12M_SM_RA_2mm)
2.00mm Pitch CLIK-Mate Wire-to-Board PCB Receptacle, Single Row, Right-Angle, 12 Circuits; Manufacturer: Molex; Number of Contacts: 12; Contact Resistance: 20mR; Current Rating: 3A; Mating Cycles: 30; Voltage Rating (AC): 250V; Insulation Resistance: 1GR; Pitch: 2mm; Glow Wire Compliant: Non-compliant; Supplier 1: Mouser; Manufacturer Part Number: 502494-1270; RoHS: Yes; Category: Headers and Wire Housings; Stock 1: 1900; Pricing 1: 950=0.62780, 1900=0.61060, 3800=0.56580, 5700=0.53600, 7600=0.52000 (USD); Mount: Surface Mount; Color: Natural,White; Contact Plating: Tin; Contact Material: Copper Alloy; Housing Material: PBT; Material: Polybutylene; Housing Color: Natural; Min Operating Temperature: -25°C; Max Operating Temperature: 85°C; Number of Rows: 1; Termination: Solder; Fastening Type: Latch; Packaging: Tape and Reel; Contact Gender: Female; Package Quantity: 950; Connector Type: Receptacle; Number of Positions: 12; Max Voltage Rating (AC): 250V; Max Voltage Rating (DC): 250V; Gender: Receptacle; Orientation: Right Angle; Number of Circuits: 12; Series: 502494; Contact Type: Center Strip Contact; Length: 28mm; Lead Pitch: 2mm; Depth: 6.85mm; Radiation Hardening: No; REACH SVHC: Unknown; Flammability Rating: UL94 V-0
footprint MOLEX-5024941270
pins: 0, 1, 2, 3, 4, 5, 6, 7 6, 8 6, 9, 10, 11, 12

## CON_12M_TH_VERT_2.54mm
designator J?, comment Samtech, TS-112-T-A
CONN HEADER THROUGH HOLE VERTICAL 2.54MM PITCH; Supplier 1: Digi-Key; Supplier Part Number 1: SAM12216-ND; Manufacturing Part Number: Samtech, TS-112-T-A
footprint Samtech-TS-112-T-A (Samtech CONN HEADER VERT 12POS 2.54MM)
pins: 1, 2, 3, 4, 5, 6, 7 1, 8 2, 9 3, 10 4, 11 5, 12 6

## CON_12x2M_SM_RA
designator J?  Manufacturer Part Number 1: 5031482490  (hidden comment: CON_12x2M_SM_RA)
CONN HEADER SMD RIGHT ANGLE 1.5MM PITCH; Manufacturer 1: Molex; Voltage Rating: 100V; Current Rating: 2A; Supplier 1: Digi-Key; Mounting Type: SMD; Package/Footprint: SMD; Orientation: Right Angle; Pitch: 1.5mm; Supplier Part Number 1: WM20820CT-ND; Family: CLIK-Mate
footprint MOLEX-5031482490 (Molex 5031482490 24 pin 1.5 mm pitch SMD RA connector)
pins: 0, 1, 2, 3, 4, 5, 6, 7, 8, 9, 10, 11, 12, 13, 14, 15, 16, 17, 18, 19, 20, 21, 22, 23, 24

## CON_30P_FFC_RA
designator J?  Manufacturer Part Number 1: 046288030000846+
CONN FFC BOTTOM 30POS 0.5MM R/A; Manufacturer 1: Molex; Package/Footprint: SMD; Current Rating: 0.4A; Voltage Rating: 50V; Supplier 1: Digi-Key; Mounting Type: SMD; Orientation: Right Angle; Pitch: 0.5mm; Supplier Part Number 1: 478-046288030000846+CT-ND
footprint KYOCERA_FFC_30P_RA
pins: 0, 1, 2, 3, 4, 5, 6, 7 6, 8 6, 9, 10, 11, 12, 13, 14, 15, 16, 17, 18, 19, 20, 21, 22, 23, 24, 25, 26, 27, 28, 29, 30

## CON_AMPHENOL_SD
designator J?
CONN SD CARD PUSH-PUSH SMD; Manufacturer 1: Amphenol ICC (FCI); Manufacturer Part Number 1: 10067847-001RLF; Supplier 1: Digi-Key; Package/Footprint: SMD; Supplier Part Number 1: 609-3956-1-ND
footprint AMPHENOL_SD_CON
pins: 1 CS/DAT3 (io), 2 CMD/DI (in), 3 VSS (power), 4 VCC (power), 5 SCLK (io), 6 VSS (power), 7 DAT0/DO (out), 8 DAT1 (io), 9 DAT2 (io), 10 CD (out), 11 WP (out), 12 GND (power)

## CON_BANANA_BLACK_5A
designator J?, comment 105-1103-001  (value not drawn)
CONN TIP JACK SOLDER BLACK; Manufacturer 1: Cinch Connectivity Solutions Johnson; Current Rating: 5A; Manufacturer Part Number 1: 105-1103-001; Supplier 1: Digi-Key; Supplier Part Number 1: J577-ND
footprint CINCH_BANANA_JACK_RED
pins: 1 (power)

## CON_BANANA_BLUE_25A
designator J?, comment CT3151SP-6  (value not drawn)
CONN BANANA JACK SOLDER BLUE; Manufacturer 1: Cal Test Electronics; Current Rating: 25A; Manufacturer Part Number 1: CT3151SP-6; Supplier 1: Digi-Key; Supplier Part Number 1: BKCT3151SP-6-ND
footprint CALTEST_BANANA_JACK_BLUE
pins: 1 (power)

## CON_BANANA_GREEN_25A
designator J?, comment CT3151SP-5  (value not drawn)
CONN BANANA JACK SOLDER GREEN; Manufacturer 1: Cal Test Electronics; Current Rating: 25A; Manufacturer Part Number 1: CT3151SP-5; Supplier 1: Digi-Key; Supplier Part Number 1: BKCT3151SP-5-ND
footprint CALTEST_BANANA_JACK_GREEN
pins: 1 (power)

## CON_BANANA_RED_5A
designator J?, comment 105-1102-001  (value not drawn)
CONN TIP JACK SOLDER RED; Manufacturer 1: Cinch Connectivity Solutions Johnson; Current Rating: 5A; Supplier 1: Digi-Key; Supplier Part Number 1: J576-ND; Manufacturer Part Number 1: 105-1102-001
footprint CINCH_BANANA_JACK_RED
pins: 1 (power)

## CON_BANANA_YELLOW_25A
designator J?, comment CT3151SP-4  (value not drawn)
CONN BANANA JACK SOLDER YELLOW; Manufacturer 1: Cal Test Electronics; Current Rating: 25A; Manufacturer Part Number 1: CT3151SP-4; Supplier 1: Digi-Key; Supplier Part Number 1: BKCT3151SP-4-ND
footprint CALTEST_BANANA_JACK_YELLOW
pins: 1 (power)

## CON_JST_3POS
designator J?  Manufacturer Part Number 1: B3B-XH-A
CONN HEADER VERT 3POS 2.5MM; Manufacturer 1: JST Sales America Inc.; Voltage Rating: 250VAC; Current Rating: 3A; Pitch: 2.5mm; Supplier 1: Digi-Key; Supplier Part Number 1: 455-2248-ND
footprint JST_XH_3POS
pins: 1, 2, 3

## CON_MICROSD_MOLEX
designator J?
CONN MICRO SD CARD R/A SMD; Manufacturer 1: Molex; Manufacturer Part Number 1: 5033981892; Supplier 1: Digi-Key; Package/Footprint: SMD; Supplier Part Number 1: WM11190CT-ND
footprint MOLEX-5033981892
pins: 1 DAT2 (io), 2 CD/DAT3 (io), 3 CMD/DI (in), 4 VCC (power), 5 SCLK (in), 6 VSS (power), 7 DAT0/DO (out), 8 DAT1 (io), 9 CD (out), 10 SHIELD

## CON_MICROUSB_VERT
designator J?  Manufacturer Part Number 1: 614105150721  (hidden comment: CON_MICROUSB_VERT)
CONN RCPT USB2.0 MICRO B VERT; Manufacturer 1: Wurth Electronics; Package/Footprint: SMD; Supplier Part Number 1: 732-5958-1-ND; Supplier 1: Digi-Key; Mounting Type: SMD
footprint USB_CON (WURTH_614105150721)
pins: 1, 2, 3, 4, 5, SH1 SHIELD, SH2 SHIELD

## CON_MOLEX-FFC_30P_RA
designator J?  Manufacturer Part Number 1: 046288030000846+
CONN FFC BOTTOM 30POS 0.5MM R/A; Manufacturer 1: Molex; Package/Footprint: SMD; Current Rating: 0.4A; Voltage Rating: 50V; Supplier 1: Digi-Key; Mounting Type: SMD; Orientation: Right Angle; Pitch: 0.5mm; Supplier Part Number 1: 478-046288030000846+CT-ND
footprint MOLEX_FFC_30P_RA
pins: 0, 1, 2, 3, 4, 5, 6, 7 6, 8 6, 9, 10, 11, 12, 13, 14, 15, 16, 17, 18, 19, 20, 21, 22, 23, 24, 25, 26, 27, 28, 29, 30

## CON_MOLEX-HDR_2x2_TH
designator J?, comment Family: Micro-Fit 3.0  (hidden comment: 0430450412)
CONN HEADER VERT 4POS 3MM; Manufacturer 1: Molex; Voltage Rating: 600V; Current Rating: 8A; Pitch: 3mm; Supplier 1: Digi-Key; Supplier Part Number 1: WM1790-ND; Manufacturer Part Number 1: 0430450412
footprint MOLEX-0430450412
pins: 1, 2, 3, 4

## CON_MOLEX-HDR_4x2_TH
designator J?, comment Family: Micro-Fit 3.0  (hidden comment: 0430450828)
CONN HEADER VERT 8POS 3MM; Manufacturer 1: Molex; Voltage Rating: 250VAC; Current Rating: 5A; Pitch: 3mm; Supplier 1: Digi-Key; Supplier Part Number 1: WM10693-ND; Manufacturer Part Number 1: 0430450828
footprint MOLEX-0430450828
pins: 1, 2, 3, 4, 5, 6, 7, 8

## CON_MOLEX-HDR_7x2_TH
designator J?, comment Family: Micro-Fit 3.0  (hidden comment: 0430451427)
CONN HEADER VERT 14POS 3MM; Manufacturer 1: Molex; Voltage Rating: 250VAC; Current Rating: 5A; Pitch: 3mm; Supplier 1: Digi-Key; Supplier Part Number 1: WM10707-ND; Manufacturer Part Number 1: 0430451427
footprint MOLEX-0430451427
pins: 1, 2, 3, 4, 5, 6, 7, 8, 9, 10, 11, 12, 13, 14

## CON_MOLEX-HDR_9x2_TH
designator J?, comment Family: Micro-Fit 3.0  (hidden comment: 0430451827)
CONN HEADER VERT 18POS 3MM; Manufacturer 1: Molex; Voltage Rating: 250VAC; Current Rating: 5A; Pitch: 3mm; Supplier 1: Digi-Key; Supplier Part Number 1: WM10723-ND; Manufacturer Part Number 1: 0430451827
footprint MOLEX-0430451827
pins: 1, 2, 3, 4, 5, 6, 7, 8, 9, 10, 11, 12, 13, 14, 15, 16, 17, 18

## CON_MOLEX-IGRID_9x2_THRA
designator J?, comment 5018761840
CONN HEADER R/A 18POS 2MM; Manufacturer 1: Molex; Voltage Rating: 250V; Current Rating: 7.5A; Pitch: 2mm; Supplier 1: Digi-Key; Supplier Part Number 1: WM12314-ND; Manufacturer Part Number 1: 5018761840
footprint MOLEX-IGRID 9X2 THRA
pins: 1, 2, 3, 4, 5, 6, 7, 8, 9, 10, 11, 12, 13, 14, 15, 16, 17, 18

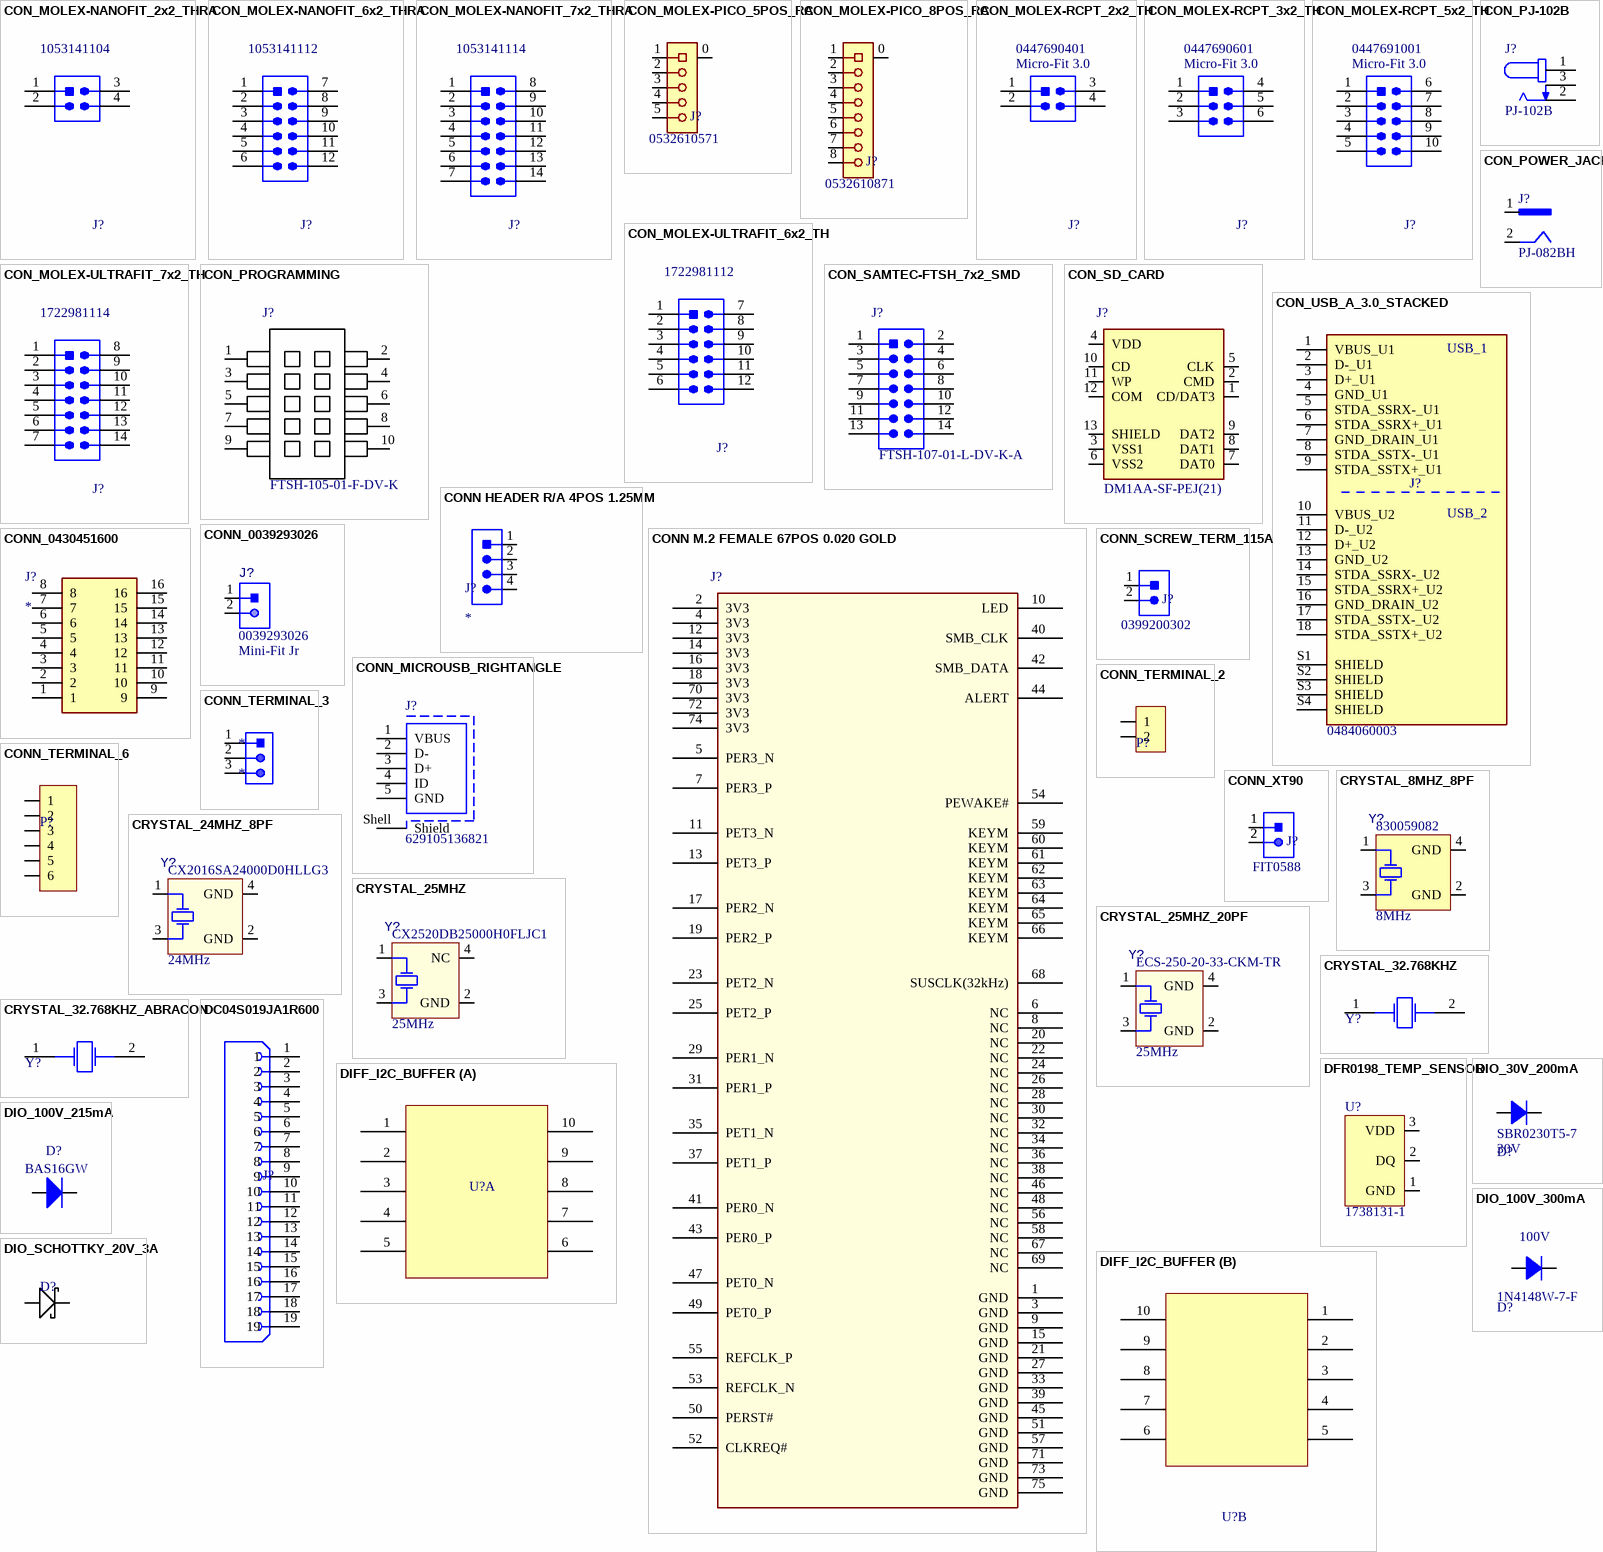
[diagram p7: symbols CON_MOLEX-NANOFIT_2x2_THRA to DIO_SCHOTTKY_20V_3A]

## CON_MOLEX-NANOFIT_2x2_THRA
designator J?, comment Manufacturer Part Number 1: 1053141104  (hidden comment: 0430450412)
CONN HEADER R/A 4POS 2.5MM; Manufacturer 1: Molex; Voltage Rating: 250V; Current Rating: 7.5A; Pitch: 2.5mm; Supplier 1: Digi-Key; Supplier Part Number 1: WM16907-ND
footprint MOLEX-NANOFIT 2x2 THRA
pins: 1, 2, 3, 4

## CON_MOLEX-NANOFIT_6x2_THRA
designator J?, comment 1053141112
CONN HEADER R/A 12POS 2.5MM; Manufacturer 1: Molex; Voltage Rating: 250VV; Current Rating: 7.5A; Pitch: 2.5mm; Supplier 1: Digi-Key; Supplier Part Number 1: WM16911-ND; Manufacturer Part Number 1: 1053141112
footprint MOLEX-NANOFIT 6x2 THRA
pins: 1, 2, 3, 4, 5, 6, 7, 8, 9, 10, 11, 12

## CON_MOLEX-NANOFIT_7x2_THRA
designator J?, comment 1053141114
CONN HEADER R/A 14POS 2.5MM; Manufacturer 1: Molex; Voltage Rating: 250V; Current Rating: 7.5A; Pitch: 2.5mm; Supplier 1: Digi-Key; Supplier Part Number 1: WM16912-ND; Manufacturer Part Number 1: 1053141114
footprint MOLEX-NANOFIT 7x2 THRA
pins: 1, 2, 3, 4, 5, 6, 7, 8, 9, 10, 11, 12, 13, 14

## CON_MOLEX-PICO_5POS_RA
designator J?  Manufacturer Part Number 1: 0532610571
CONN HEADER SMD R/A 5POS 1.25MM; Manufacturer 1: Molex; Supplier 1: Digi-Key; Supplier Part Number 1: WM7623CT-ND
footprint MOLEX-532610571
pins: 0, 1, 2, 3, 4, 5

## CON_MOLEX-PICO_8POS_RA
designator J?  Manufacturer Part Number 1: 0532610871
CONN HEADER SMD R/A 8POS 1.25MM; Manufacturer 1: Molex; Supplier 1: Digi-Key; Supplier Part Number 1: WM7626CT-ND
footprint MOLEX-532610871
pins: 0, 1, 2, 3, 4, 5, 6, 7, 8

## CON_MOLEX-RCPT_2x2_TH
designator J?, comment Family: Micro-Fit 3.0  (hidden comment: 0447690401)
CONN RCPT 4POS 0.118 TIN PCB; Manufacturer 1: Molex; Voltage Rating: 250VAC; Current Rating: 5A; Pitch: 3mm; Supplier 1: Digi-Key; Supplier Part Number 1: 23-0447690401-ND; Manufacturer Part Number 1: 0447690401
footprint MOLEX-0447690401
pins: 1, 2, 3, 4

## CON_MOLEX-RCPT_3x2_TH
designator J?, comment Family: Micro-Fit 3.0  (hidden comment: 0447690601)
CONN RCPT 6POS 0.118 TIN PCB; Manufacturer 1: Molex; Voltage Rating: 250VAC; Current Rating: 5A; Pitch: 3mm; Supplier 1: Digi-Key; Supplier Part Number 1: 23-0447690601-ND; Manufacturer Part Number 1: 0447690601
footprint MOLEX-0447690601
pins: 1, 2, 3, 4, 5, 6

## CON_MOLEX-RCPT_5x2_TH
designator J?, comment Family: Micro-Fit 3.0  (hidden comment: 0447691001)
CONN RCPT 10POS 0.118 TIN PCB; Manufacturer 1: Molex; Voltage Rating: 250VAC; Current Rating: 5A; Pitch: 3mm; Supplier 1: Digi-Key; Supplier Part Number 1: WM1956-ND; Manufacturer Part Number 1: 0447691001
footprint MOLEX-0447691001
pins: 1, 2, 3, 4, 5, 6, 7, 8, 9, 10

## CON_MOLEX-ULTRAFIT_6x2_TH
designator J?, comment 1722981112
CONN HEADER VERT 12POS 3.5MM; Manufacturer 1: Molex; Voltage Rating: 400V; Current Rating: 15A; Pitch: 3.5mm; Supplier 1: Digi-Key; Supplier Part Number 1: WM11743-ND; Manufacturer Part Number 1: 1722981112
footprint MOLEX-ULTRAFIT 6x2 TH
pins: 1, 2, 3, 4, 5, 6, 7, 8, 9, 10, 11, 12

## CON_MOLEX-ULTRAFIT_7x2_TH
designator J?, comment 1722981114
CONN HEADER VERT 14POS 3.5MM; Manufacturer 1: Molex; Voltage Rating: 400V; Current Rating: 15A; Pitch: 3.5mm; Supplier 1: Digi-Key; Supplier Part Number 1: WM11744-ND; Manufacturer Part Number 1: 1722981114
footprint MOLEX-ULTRAFIT 7x2 TH
pins: 1, 2, 3, 4, 5, 6, 7, 8, 9, 10, 11, 12, 13, 14

## CON_PJ-102B
designator J?  Manufacturer Part Number 1: PJ-102B  (hidden comment: CON_PJ-102B)
CONN PWR JACK 2.5X5.5MM SOLDER; Manufacturer 1: CUI Devices; Package/Footprint: TH; Supplier 1: Digi-Key; Mounting Type: TH; Supplier Part Number 1: CP-102B-ND
footprint CUI_PJ-102B
pins: 1, 2, 3

## CON_POWER_JACK
designator J?  Manufacturer Part Number 1: PJ-082BH
CONN PWR JACK 2.5X5.5MM SOLDER; Manufacturer 1: CUI Devices; Voltage Rating: 24VDC; Current Rating: 10A; Supplier 1: Digi-Key; Supplier Part Number 1: CP-082BHCT-ND
footprint CUI_PJ-082BH
pins: 1, 2

## CON_PROGRAMMING
designator J?  Manufacturer Part Number 1: FTSH-105-01-F-DV-K
CONN HEADER SMD 10POS 1.27MM; Manufacturer 1: Samtec; Supplier 1: Digi-Key; Mounting Type: SMD; Pitch: 1.27mm; Supplier Part Number 1: SAM8796-ND
footprint FTSH-105-01-F-DV-K-P-TR (Samtec programming header 10 positions)
pins: 1, 2, 3, 4, 5, 6, 7, 8, 9, 10

## CON_SAMTEC-FTSH_7x2_SMD
designator J?  Manufacturer Part Number 1: FTSH-107-01-L-DV-K-A
CONN HEADER SMD 14POS 1.27MM; Manufacturer 1: Samtec; Supplier 1: Digi-Key; Mounting Type: SMD; Pitch: 1.27mm; Supplier Part Number 1: FTSH-107-01-L-DV-K-A-ND
footprint SAMTEC-FTSH 7x2 SMD (Samtec programming header 14 positions)
pins: 1, 2, 3, 4, 5, 6, 7, 8, 9, 10, 11, 12, 13, 14

## CON_SD_CARD
designator J?  Manufacturer Part Number 1: DM1AA-SF-PEJ(21)  (hidden comment: CON_SD_CARD)
CONN SD CARD PUSH-PUSH R/A SMD; Manufacturer 1: Hirose Electric Co Ltd; Supplier 1: Digi-Key; Supplier Part Number 1: HR845CT-ND
footprint HRS_DM1AA-SF-PEJ(21)
pins: 1 CD/DAT3, 2 CMD, 3 VSS1 (power), 4 VDD (power), 5 CLK, 6 VSS2 (power), 7 DAT0, 8 DAT1, 9 DAT2, 10 CD, 11 WP, 12 COM, 13 SHIELD

## CON_USB_A_3.0_STACKED
designator J?  Manufacturer Part Number 1: 0484060003
CONN RCPT USB3.0 TYPEA STACK R/A; Manufacturer 1: Molex; Specifications: USB 3.2 Gen 1; Current Rating: 0.25A, 1.8A; Voltage Rating: 30VAC/DC; Number of Ports: 2; Supplier 1: Digi-Key; Supplier Part Number 1: WM10420-ND; Mounting Type: Through Hole, Right Angle
footprint MOLEX_0484060003
pins: 1 VBUS_U1, 2 D-_U1, 3 D+_U1, 4 GND_U1, 5 STDA_SSRX-_U1, 6 STDA_SSRX+_U1, 7 GND_DRAIN_U1, 8 STDA_SSTX-_U1, 9 STDA_SSTX+_U1, 10 VBUS_U2, 11 D-_U2, 12 D+_U2, 13 GND_U2, 14 STDA_SSRX-_U2, 15 STDA_SSRX+_U2, 16 GND_DRAIN_U2, 17 STDA_SSTX-_U2, 18 STDA_SSTX+_U2, S1 SHIELD, S2 SHIELD, S3 SHIELD, S4 SHIELD
text: USB_1; USB_2